# Altium schematic symbol library TPS62086RLTR.SchLib: 1 symbol
Pins are listed as number, name and electrical type; pins without a type are passive.

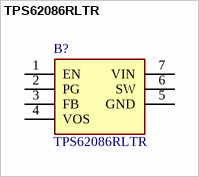
[diagram p0: symbol TPS62086RLTR]

## TPS62086RLTR
designator B?
Switching Voltage Regulators 3A SD Cnvtr w/ DCS-Control; Manufacturer_Name: Texas Instruments; Geometry.Height: 1mm; Manufacturer_Part_Number: TPS62086RLTR; Mouser Part Number: 595-TPS62086RLTR; Mouser Price/Stock: https://www.mouser.co.uk/ProductDetail/Texas-Instruments/TPS62086RLTR?qs=gNSudQoqUYDJjodQ1zmrAg%3D%3D; Arrow Part Number: TPS62086RLTR; Arrow Price/Stock: https://www.arrow.com/en/products/tps62086rltr/texas-instruments?utm_currency=USD&region=nac; Datasheet Link: https://www.ti.com/lit/ds/symlink/tps62086.pdf?HQS=dis-mous-null-mousermode-dsf-pf-null-wwe&ts=1657633216371&ref_url=https%253A%252F%252Fwww.mouser.de%252F
footprint TPS62086RLTR
pins: 1 EN, 2 PG, 3 FB, 4 VOS, 5 GND, 6 SW, 7 VIN